# Altium footprint library RF-UNIT-BIG.PcbLib: 59 footprints (part 2 of 4)
Each footprint in its own frame and in the unit in brackets; x right, y up, seen from the top. Pads: shape width x height; smd on the part's side, far side on the other; paste and mask are expansions set on the pad; w line width, h text height; cw(c..) or ccw(c..) is an arc to the next point about the centre after c.
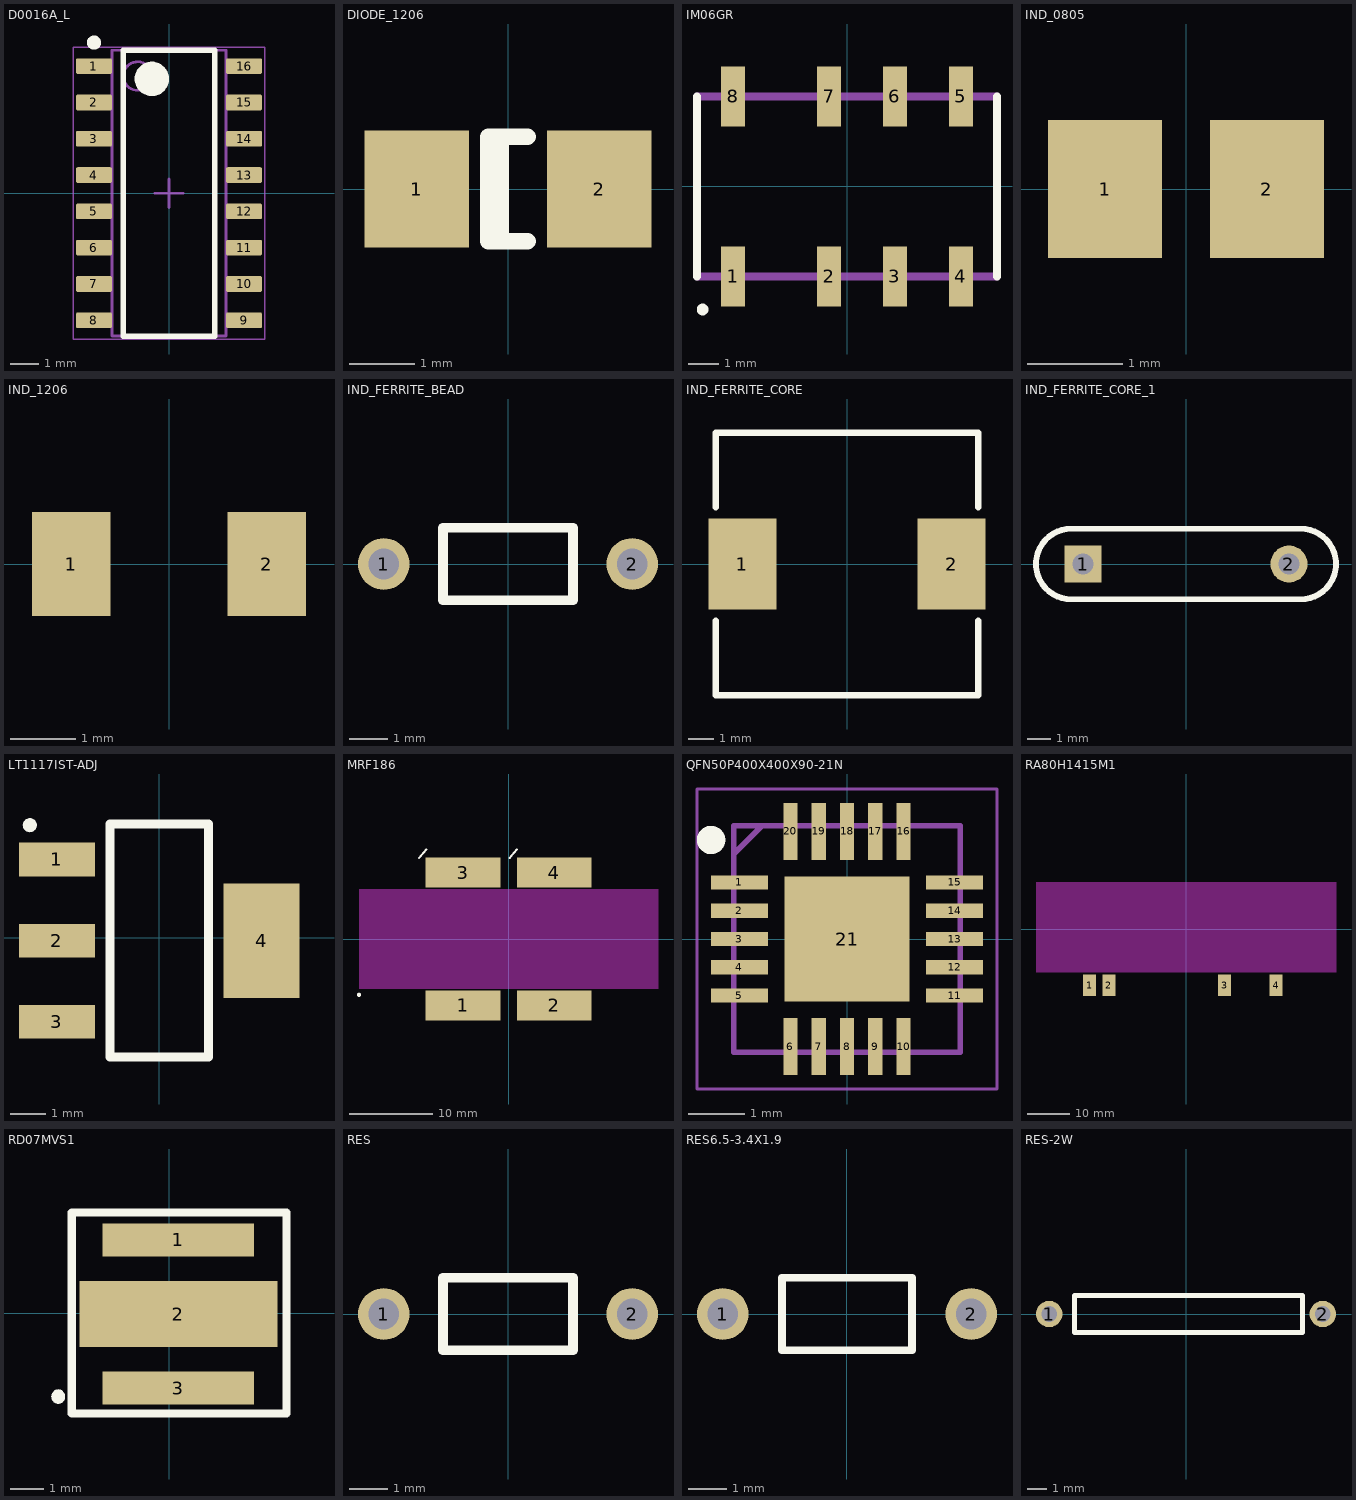
[diagram p1: the footprints below, top view; thin cyan lines are the x and y axes]

## D0016A_L [mm] "SOIC, 16-Leads, Body 10x4mm, Pitch 1.27mm, IPC High Density"
height 1.75
pads (16):
  rrect18% 1.25x0.55 smd: 1(-2.625,4.445) 2(-2.625,3.175) 3(-2.625,1.905) 4(-2.625,0.635) 5(-2.625,-0.635) 6(-2.625,-1.905) 7(-2.625,-3.175) 8(-2.625,-4.445) 9(2.625,-4.445) 10(2.625,-3.175) 11(2.625,-1.905) 12(2.625,-0.635) 13(2.625,0.635) 14(2.625,1.905) 15(2.625,3.175) 16(2.625,4.445)
Top Overlay:
  circle w0.25: c-2.625,5.27 r0.125
  circle w0.6: c-0.6,4 r0.3
  lines w0.2: -1.6,-5 -1.6,5 1.6,5 1.6,-5 -1.6,-5
Mechanical 1:
  text ".Designator" at -1.531,-0.319 h0.8
Mechanical 13:
  circle w0.1: c-1.1,4.1 r0.5
  lines w0.1: -2,-5 -2,5 2,5 2,-5 -2,-5
Mechanical 15:
  lines w0.05: -3.35,-5.1 -3.35,5.1 3.35,5.1 3.35,-5.1 -3.35,-5.1
  lines w0.1: -0.5,0 0.5,0 ; 0,-0.5 0,0.5
3D body "SOIC-16akaD0016AakaM16A.stp": height 1.59, standoff -0.01, extent -2.997,-4.953 2.997,4.953

## DIODE_1206 [mm]
pads (2):
  rect 1.6x1.8 smd: 1(-1.4,0) 2(1.4,0)
Top Overlay:
  lines w0.254: -0.111,-0.799 -0.111,0.799 ; 0.299,-0.799 -0.299,-0.799 -0.3,0.799 0.299,0.799

## IM06GR [mm]
pads (8):
  rect 0.8x2 smd: 1(-3.8,-3) 2(-0.6,-3) 3(1.6,-3) 4(3.8,-3) 5(3.8,3) 6(1.6,3) 7(-0.6,3) 8(-3.8,3)
Top Overlay:
  circle w0.254: c-4.814,-4.101 r0.067
  lines w0.254: -5,-3 -5,3 ; 5,-3 5,3
Mechanical 13:
  lines w0.254: -5,-3 5,-3 5,3 -5,3 -5,-3

## IND_0805 [mm]
pads (2):
  rect 1.2x1.45 smd: 1(-0.85,0) 2(0.85,0)

## IND_1206 [mm]
pads (2):
  rect 1.2x1.6 smd: 1(-1.5,0) 2(1.5,0)

## IND_FERRITE_BEAD [mm]
pads (2):
  round 1.35 hole 0.8: 1(-3.25,0) 2(3.25,0)
Top Overlay:
  lines w0.254: -1.703,-0.95 1.703,-0.95 1.703,0.95 -1.703,0.95 -1.703,-0.95

## IND_FERRITE_CORE [mm]
pads (2):
  rect 2.7x3.6 smd: 1(-4.15,0) 2(4.15,0)
Top Overlay:
  lines w0.254: -5.2,-2.25 -5.2,-5.2 5.2,-5.2 5.2,-2.25 ; -5.2,2.25 -5.2,5.2 5.2,5.2 5.2,2.25

## IND_FERRITE_CORE_1 [mm]
pads (2):
  rect 1.6x1.6 hole 0.9: 1(-4.445,0)
  round 1.6 hole 0.9: 2(4.445,0)
Top Overlay:
  lines w0.254: -4.953,-1.524 cw(c-4.953,0) -4.953,1.524 ; -4.948,-1.524 4.948,-1.524 ; -4.948,1.524 4.948,1.524 ; 4.953,-1.524 ccw(c4.953,0) 4.953,1.524

## LT1117IST-ADJ [mm]
pads (4):
  rect 2.15x0.95 smd: 1(-2.9,2.215) 2(-2.9,-0.085) 3(-2.9,-2.385)
  rect 2.15x3.25 smd: 4(2.9,-0.085)
Top Overlay:
  region: -3.471,3.189 -3.474,3.223 -3.483,3.256 -3.497,3.287 -3.517,3.315 -3.541,3.339 -3.569,3.358 -3.6,3.373 -3.633,3.381 -3.667,3.384 -3.701,3.381 -3.734,3.373 -3.765,3.358 -3.793,3.339 -3.817,3.315 -3.837,3.287 -3.851,3.256 -3.86,3.223 -3.863,3.189 -3.86,3.155 -3.851,3.122 -3.837,3.091 -3.817,3.063 -3.793,3.039 -3.765,3.019 -3.734,3.005 -3.701,2.996 -3.667,2.993 -3.633,2.996 -3.6,3.005 -3.569,3.019 -3.541,3.039 -3.517,3.063 -3.497,3.091 -3.483,3.122 -3.474,3.155
  lines w0.254: -1.4,-3.384 1.4,-3.384 1.4,3.215 -1.4,3.215 -1.4,-3.384

## MRF186 [mm]
pads (4):
  rect 9x3.6 smd: 1(-5.5,-8) 2(5.5,-8) 3(-5.5,8) 4(5.5,8)
Top Overlay:
  circle w0.254: c-18.034,-6.731 r0.127
  lines w0.254: -10.795,9.779 -9.906,10.795 ; 0.127,9.779 1.016,10.795
Keep-Out Layer:
  board cut-out: -18,6 18,6 18,-6 -18,-6

## QFN50P400X400X90-21N [mm]
pads (21):
  rect 1x0.25 smd: 1(-1.9,1) 2(-1.9,0.5) 3(-1.9,0) 4(-1.9,-0.5) 5(-1.9,-1) 11(1.9,-1) 12(1.9,-0.5) 13(1.9,0) 14(1.9,0.5) 15(1.9,1)
  rect 0.25x1 smd: 6(-1,-1.9) 7(-0.5,-1.9) 8(0,-1.9) 9(0.5,-1.9) 10(1,-1.9) 16(1,1.9) 17(0.5,1.9) 18(0,1.9) 19(-0.5,1.9) 20(-1,1.9)
  rect 2.2x2.2 smd: 21(0,0)
Top Overlay:
  circle w0.25: c-2.4,1.75 r0.125
Mechanical 13:
  lines w0.1: -2,1.5 -1.5,2 ; -2,-2 -2,2 2,2 2,-2 -2,-2
Mechanical 15:
  lines w0.05: -2.65,-2.65 -2.65,2.65 2.65,2.65 2.65,-2.65 -2.65,-2.65
3D body "PE4312C-Z.stp": height 0.9, standoff 0, extent -2.05,-2.05 2.05,2.05

## RA80H1415M1 [mm]
pads (4):
  rect 3x5 smd: 1(-22.5,-13) 2(-18,-13) 3(9,-13) 4(21,-13)
Keep-Out Layer:
  board cut-out: -35,11 35,11 35,-10 -35,-10

## RD07MVS1 [mm]
pads (3):
  rect 4.6x1 smd: 1(0.285,2.22) 3(0.285,-2.28)
  rect 6x2 smd: 2(0.285,-0.03)
Top Overlay:
  region: -3.155,-2.535 -3.158,-2.498 -3.167,-2.461 -3.183,-2.427 -3.203,-2.397 -3.228,-2.37 -3.257,-2.349 -3.29,-2.333 -3.324,-2.323 -3.36,-2.32 -3.396,-2.323 -3.43,-2.333 -3.463,-2.349 -3.492,-2.37 -3.517,-2.397 -3.538,-2.427 -3.553,-2.461 -3.562,-2.498 -3.565,-2.535 -3.562,-2.572 -3.553,-2.608 -3.538,-2.642 -3.517,-2.673 -3.492,-2.7 -3.463,-2.721 -3.43,-2.737 -3.396,-2.747 -3.36,-2.75 -3.324,-2.747 -3.29,-2.737 -3.257,-2.721 -3.228,-2.7 -3.203,-2.673 -3.183,-2.642 -3.167,-2.608 -3.158,-2.572
  lines w0.254: -2.945,-3.05 3.565,-3.05 3.565,3.05 -2.945,3.05 -2.945,-3.05

## RES [mm]
pads (2):
  round 1.35 hole 0.8: 1(-3.25,0) 2(3.25,0)
Top Overlay:
  lines w0.254: -1.703,-0.95 1.703,-0.95 1.703,0.95 -1.703,0.95 -1.703,-0.95

## RES6.5-3.4X1.9 [mm] "Resistor, Axial; Body 3.4 x 1.9 mm (LxDia. max), Lead Dia. 0.5 mm (max)"
height 1.9
pads (2):
  round 1.35 hole 0.8: 1(-3.25,0) 2(3.25,0)
Top Overlay:
  lines w0.2: -1.7,-0.95 1.7,-0.95 1.7,0.95 -1.7,0.95 -1.7,-0.95

## RES-2W [mm]
pads (2):
  round 1.35 hole 0.8: 1(-7,0) 2(7,0)
Top Overlay:
  lines w0.254: -5.715,-0.95 -5.715,0.95 5.969,0.95 5.969,-0.95 -5.715,-0.95